# Altium schematic symbol library SIR680ADP.Schlib: 1 symbol
Pins are listed as number, name and electrical type; pins without a type are passive.

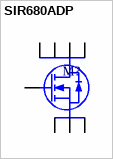
[diagram p0: symbol SIR680ADP]

## SIR680ADP
designator M?
80V 125A N-Channel
pins: 1 S, 2 S, 3 S, 4 G, 5 D, 6 D, 7 D, 8 D